# Altium footprint library 618 0xx 231 421.PcbLib: 4 footprints
Each footprint in its own frame and in the unit in brackets; x right, y up, seen from the top. Pads: shape width x height; smd on the part's side, far side on the other; paste and mask are expansions set on the pad; w line width, h text height; cw(c..) or ccw(c..) is an arc to the next point about the centre after c.
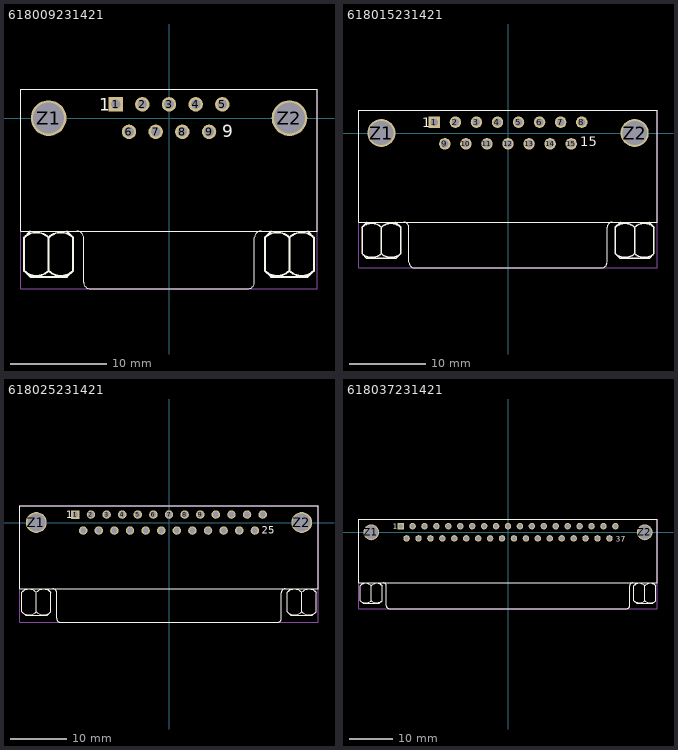
[diagram p0: the footprints below, top view; thin cyan lines are the x and y axes]

## 618009231421 [mm] "9 pins, right angled, 10.3mm, with hex screw"
height 12.5
pads (11):
  rect 1.5x1.5 hole 1: 1(-5.54,1.42)
  round 1.5 hole 1: 2(-2.77,1.42) 3(0,1.42) 4(2.77,1.42) 5(5.54,1.42) 6(-4.155,-1.42) 7(-1.385,-1.42) 8(1.385,-1.42) 9(4.155,-1.42)
  round 3.7 hole 3.2: Z1(-12.5,0) Z2(12.5,0)
Top Overlay:
  lines w0.127: -9.56,-11.725 cw(c-9.56,-12.42) -8.865,-12.42 -8.865,-17.02 ; -8.86,-17.025 ccw(c-8.165,-17.025) -8.165,-17.72 8.165,-17.72 ccw(c8.165,-17.025) 8.86,-17.025 ; 8.865,-17.02 8.865,-12.42 cw(c9.56,-12.42) 9.56,-11.725 ; -15.4,-11.72 -15.4,3 15.4,3 15.4,-11.72 -15.4,-11.72
  lines w0.2: -15.042,-15.855 -14.407,-16.49 -10.597,-16.49 -9.962,-15.855 -9.962,-12.399 -10.597,-11.764 ; -15.042,-15.84 -15.042,-12.399 -14.407,-11.764 ; -15.042,-14.788 -15.042,-14.576 ; -12.502,-15.84 -12.502,-12.399 ; 9.958,-15.855 10.593,-16.49 14.403,-16.49 15.038,-15.855 15.038,-12.399 14.403,-11.764 ; 9.958,-15.84 9.958,-12.399 10.593,-11.764 ; 9.958,-14.788 9.958,-14.576 ; 12.498,-15.84 12.498,-12.399
  lines w0.203: -15.044,-12.397 cw(c-13.772,-13.669) -12.5,-12.397 ; -15.042,-15.84 ccw(c-13.77,-14.568) -12.498,-15.84 ; -12.507,-15.84 ccw(c-11.234,-14.568) -9.962,-15.84 ; -12.504,-12.397 cw(c-11.232,-13.669) -9.96,-12.397 ; 9.956,-12.397 cw(c11.228,-13.669) 12.5,-12.397 ; 9.958,-15.84 ccw(c11.23,-14.568) 12.502,-15.84 ; 12.493,-15.84 ccw(c13.766,-14.568) 15.038,-15.84 ; 12.496,-12.397 cw(c13.768,-13.669) 15.04,-12.397
  text "1" at -7.25,0.75 h1.27
  text "9" at 5.5,-2 h1.27
Mechanical 13:
  lines w0.127: -15.4,-17.72 15.4,-17.72 15.4,3 -15.4,3 -15.4,-17.72
3D body: height 12.51, standoff -3.09, extent -15.409,-17.722 15.401,3.028

## 618015231421 [mm] "15 pins, right angled, 10.3mm, with hex screw"
height 12.5
pads (17):
  rect 1.5x1.5 hole 1: 1(-9.695,1.42)
  round 1.5 hole 1: 2(-6.925,1.42) 3(-4.155,1.42) 4(-1.385,1.42) 5(1.385,1.42) 6(4.155,1.42) 7(6.925,1.42) 8(9.695,1.42) 9(-8.31,-1.42) 10(-5.54,-1.42) 11(-2.77,-1.42) 12(0,-1.42) 13(2.77,-1.42) 14(5.54,-1.42) 15(8.31,-1.42)
  round 3.7 hole 3.2: Z1(-16.65,0) Z2(16.65,0)
Top Overlay:
  lines w0.127: -13.715,-11.725 cw(c-13.715,-12.42) -13.02,-12.42 -13.02,-17.02 ; -13.015,-17.025 ccw(c-12.32,-17.025) -12.32,-17.72 12.32,-17.72 ccw(c12.32,-17.025) 13.015,-17.025 ; 13.02,-17.02 13.02,-12.42 cw(c13.715,-12.42) 13.715,-11.725 ; -19.6,-11.72 -19.6,3 19.6,3 19.6,-11.72 -19.6,-11.72
  lines w0.2: -19.192,-15.855 -18.557,-16.49 -14.747,-16.49 -14.112,-15.855 -14.112,-12.399 -14.747,-11.764 ; -19.192,-15.84 -19.192,-12.399 -18.557,-11.764 ; -19.192,-14.788 -19.192,-14.576 ; -16.652,-15.84 -16.652,-12.399 ; 14.108,-15.855 14.743,-16.49 18.553,-16.49 19.188,-15.855 19.188,-12.399 18.553,-11.764 ; 14.108,-15.84 14.108,-12.399 14.743,-11.764 ; 14.108,-14.788 14.108,-14.576 ; 16.648,-15.84 16.648,-12.399
  lines w0.203: -19.194,-12.397 cw(c-17.922,-13.669) -16.65,-12.397 ; -19.192,-15.84 ccw(c-17.92,-14.568) -16.648,-15.84 ; -16.657,-15.84 ccw(c-15.384,-14.568) -14.112,-15.84 ; -16.654,-12.397 cw(c-15.382,-13.669) -14.11,-12.397 ; 14.106,-12.397 cw(c15.378,-13.669) 16.65,-12.397 ; 14.108,-15.84 ccw(c15.38,-14.568) 16.652,-15.84 ; 16.643,-15.84 ccw(c17.916,-14.568) 19.188,-15.84 ; 16.646,-12.397 cw(c17.918,-13.669) 19.19,-12.397
  text "1" at -11.25,0.75 h1.27
  text "15" at 9.5,-1.75 h1.27
Mechanical 13:
  lines w0.127: -19.6,-17.72 -19.6,3 19.6,3 19.6,-17.72 -19.6,-17.72
3D body: height 12.51, standoff -3.09, extent -19.533,-17.726 19.607,3.024

## 618025231421 [mm] "25 pins, right angled, 10.3mm, with hex screw"
height 12.5
pads (27):
  rect 1.5x1.5 hole 1: 1(-16.62,1.42)
  round 1.5 hole 1: 2(-13.85,1.42) 3(-11.08,1.42) 4(-8.31,1.42) 5(-5.54,1.42) 6(-2.77,1.42) 7(0,1.42) 8(2.77,1.42) 9(5.54,1.42) 10(8.31,1.42) 11(11.08,1.42) 12(13.85,1.42) 13(16.62,1.42) 14(-15.235,-1.42) 15(-12.465,-1.42) 16(-9.695,-1.42) 17(-6.925,-1.42) 18(-4.155,-1.42) 19(-1.385,-1.42) 20(1.385,-1.42) 21(4.155,-1.42) 22(6.925,-1.42) 23(9.695,-1.42) 24(12.465,-1.42) 25(15.235,-1.42)
  round 3.7 hole 3.2: Z1(-23.55,0) Z2(23.55,0)
Top Overlay:
  lines w0.127: -20.64,-11.725 cw(c-20.64,-12.42) -19.945,-12.42 -19.945,-17.02 ; -19.94,-17.025 ccw(c-19.245,-17.025) -19.245,-17.72 19.245,-17.72 ccw(c19.245,-17.025) 19.94,-17.025 ; 19.945,-17.02 19.945,-12.42 cw(c20.64,-12.42) 20.64,-11.725 ; -26.5,-11.72 -26.5,3 26.5,3 26.5,-11.72 -26.5,-11.72
  lines w0.2: -26.092,-15.855 -25.457,-16.49 -21.647,-16.49 -21.012,-15.855 -21.012,-12.399 -21.647,-11.764 ; -26.092,-15.84 -26.092,-12.399 -25.457,-11.764 ; -26.092,-14.788 -26.092,-14.576 ; -23.552,-15.84 -23.552,-12.399 ; 21.008,-15.855 21.643,-16.49 25.453,-16.49 26.088,-15.855 26.088,-12.399 25.453,-11.764 ; 21.008,-15.84 21.008,-12.399 21.643,-11.764 ; 21.008,-14.788 21.008,-14.576 ; 23.548,-15.84 23.548,-12.399
  lines w0.203: -26.094,-12.397 cw(c-24.822,-13.669) -23.55,-12.397 ; -26.092,-15.84 ccw(c-24.82,-14.568) -23.548,-15.84 ; -23.557,-15.84 ccw(c-22.284,-14.568) -21.012,-15.84 ; -23.554,-12.397 cw(c-22.282,-13.669) -21.01,-12.397 ; 21.006,-12.397 cw(c22.278,-13.669) 23.55,-12.397 ; 21.008,-15.84 ccw(c22.28,-14.568) 23.552,-15.84 ; 23.543,-15.84 ccw(c24.816,-14.568) 26.088,-15.84 ; 23.546,-12.397 cw(c24.818,-13.669) 26.09,-12.397
  text "1" at -18.25,0.75 h1.27
  text "25" at 16.5,-2 h1.27
Mechanical 13:
  lines w0.127: -26.5,-17.72 26.5,-17.72 26.5,3 -26.5,3 -26.5,-17.72
3D body: height 12.51, standoff -3.09, extent -26.535,-17.727 26.505,3.023

## 618037231421 [mm] "37 pins, right angled, 10.3mm, with hex screw"
height 12.5
pads (39):
  rect 1.5x1.5 hole 1: 1(-24.93,1.42)
  round 1.5 hole 1: 2(-22.16,1.42) 3(-19.39,1.42) 4(-16.62,1.42) 5(-13.85,1.42) 6(-11.08,1.42) 7(-8.31,1.42) 8(-5.54,1.42) 9(-2.77,1.42) 10(0,1.42) 11(2.77,1.42) 12(5.54,1.42) 13(8.31,1.42) 14(11.08,1.42) 15(13.85,1.42) 16(16.62,1.42) 17(19.39,1.42) 18(22.16,1.42) 19(24.93,1.42) 20(-23.545,-1.42) 21(-20.775,-1.42) 22(-18.005,-1.42) 23(-15.235,-1.42) 24(-12.465,-1.42) 25(-9.695,-1.42) 26(-6.925,-1.42) 27(-4.155,-1.42) 28(-1.385,-1.42) 29(1.385,-1.42) 30(4.155,-1.42) 31(6.925,-1.42) 32(9.695,-1.42) 33(12.465,-1.42) 34(15.235,-1.42) 35(18.005,-1.42) 36(20.775,-1.42) 37(23.545,-1.42)
  round 3.7 hole 3.2: Z1(-31.75,0) Z2(31.75,0)
Top Overlay:
  lines w0.127: -28.95,-11.725 cw(c-28.95,-12.42) -28.255,-12.42 -28.255,-17.02 ; -28.25,-17.025 ccw(c-27.555,-17.025) -27.555,-17.72 27.555,-17.72 ccw(c27.555,-17.025) 28.25,-17.025 ; 28.255,-17.02 28.255,-12.42 cw(c28.95,-12.42) 28.95,-11.725 ; -34.7,-11.72 -34.7,3 34.7,3 34.7,-11.72 -34.7,-11.72
  lines w0.2: -34.292,-15.855 -33.657,-16.49 -29.847,-16.49 -29.212,-15.855 -29.212,-12.399 -29.847,-11.764 ; -34.292,-15.84 -34.292,-12.399 -33.657,-11.764 ; -34.292,-14.788 -34.292,-14.576 ; -31.752,-15.84 -31.752,-12.399 ; 29.208,-15.855 29.843,-16.49 33.653,-16.49 34.288,-15.855 34.288,-12.399 33.653,-11.764 ; 29.208,-15.84 29.208,-12.399 29.843,-11.764 ; 29.208,-14.788 29.208,-14.576 ; 31.748,-15.84 31.748,-12.399
  lines w0.203: -34.294,-12.397 cw(c-33.022,-13.669) -31.75,-12.397 ; -34.292,-15.84 ccw(c-33.02,-14.568) -31.748,-15.84 ; -31.757,-15.84 ccw(c-30.484,-14.568) -29.212,-15.84 ; -31.754,-12.397 cw(c-30.482,-13.669) -29.21,-12.397 ; 29.206,-12.397 cw(c30.478,-13.669) 31.75,-12.397 ; 29.208,-15.84 ccw(c30.48,-14.568) 31.752,-15.84 ; 31.743,-15.84 ccw(c33.016,-14.568) 34.288,-15.84 ; 31.746,-12.397 cw(c33.018,-13.669) 34.29,-12.397
  text "1" at -26.75,0.75 h1.27
  text "37" at 25,-2.25 h1.27
Mechanical 13:
  lines w0.127: -34.7,-17.72 -34.7,3 34.7,3 34.7,-17.72 -34.7,-17.72
3D body: height 12.51, standoff -3.09, extent -34.614,-17.724 34.706,3.026